# Altium footprint library MacroQMK.PcbLib: 13 footprints
Each footprint in its own frame and in the unit in brackets; x right, y up, seen from the top. Pads: shape width x height; smd on the part's side, far side on the other; paste and mask are expansions set on the pad; w line width, h text height; cw(c..) or ccw(c..) is an arc to the next point about the centre after c.
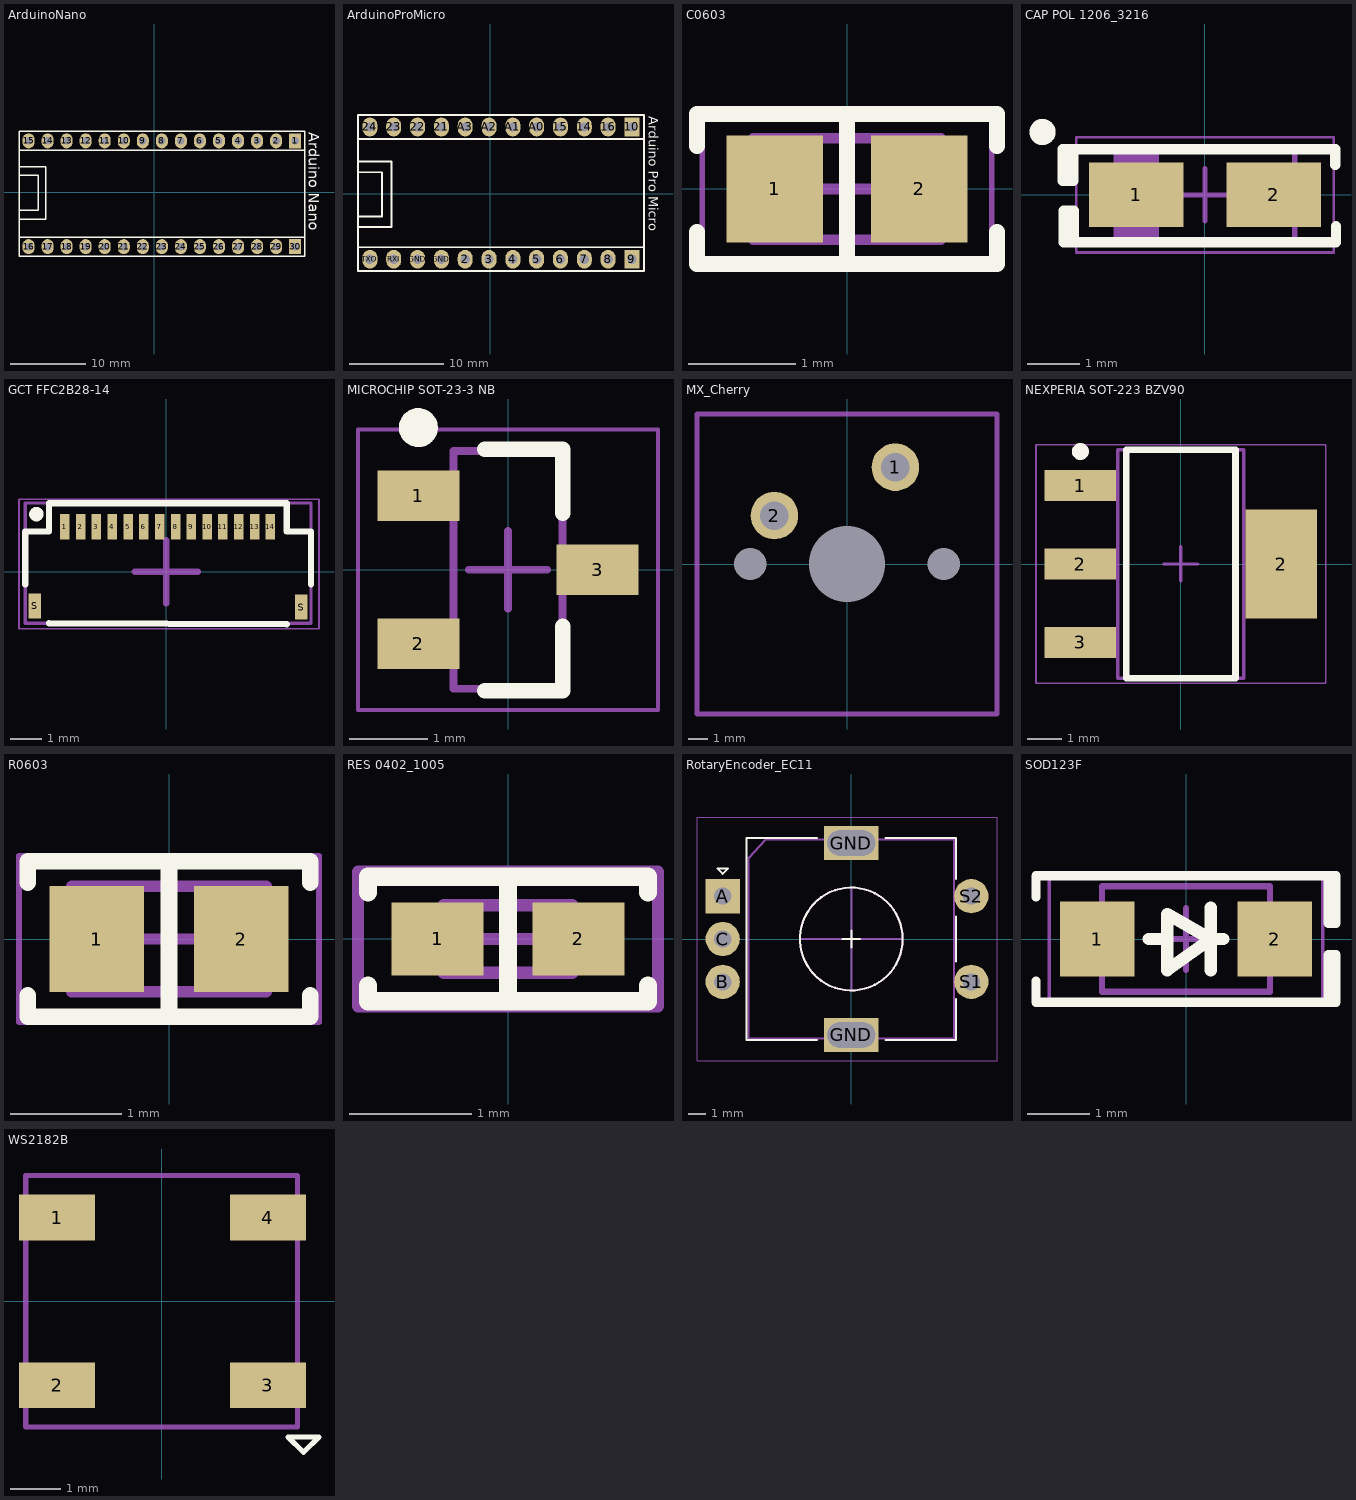
[diagram p0: the footprints below, top view; thin cyan lines are the x and y axes]

## ArduinoNano [mm]
pads (30):
  rect 1.6x2 hole 1: 1(18.796,6.858) 30(18.796,-7.239)
  oval 1.6x2 hole 1: 2(16.256,6.858) 3(13.716,6.858) 4(11.176,6.858) 5(8.636,6.858) 6(6.096,6.858) 7(3.556,6.858) 8(1.016,6.858) 9(-1.524,6.858) 10(-4.064,6.858) 11(-6.604,6.858) 12(-9.144,6.858) 13(-11.684,6.858) 14(-14.224,6.858) 15(-16.764,6.858) 16(-16.764,-7.239) 17(-14.224,-7.239) 18(-11.684,-7.239) 19(-9.144,-7.239) 20(-6.604,-7.239) 21(-4.064,-7.239) 22(-1.524,-7.239) 23(1.016,-7.239) 24(3.556,-7.239) 25(6.096,-7.239) 26(8.636,-7.239) 27(11.176,-7.239) 28(13.716,-7.239) 29(16.256,-7.239)
Top Overlay:
  lines w0.2: -18.034,-7.493 -18.034,6.858 ; -18.034,-3.429 -18.034,-3.556 -14.478,-3.556 -14.478,3.429 -18.034,3.429 ; -18.034,-2.413 -15.494,-2.413 -15.494,2.286 -18.034,2.286 ; 20.066,-8.128 20.066,8.001 ; -18.034,-8.509 -18.034,-5.969 20.066,-5.969 20.066,-8.509 18.161,-8.509 -18.034,-8.509 ; -18.034,5.588 -18.034,8.128 20.066,8.128 20.066,5.588 18.161,5.588 -18.034,5.588
  text "Arduino Nano" at 20.574,8.001 h1.4

## ArduinoProMicro [mm]
pads (24):
  oval 1.6x2 hole 1: 2(-2.667,-6.985) 3(-0.127,-6.985) 4(2.413,-6.985) 5(4.953,-6.985) 6(7.493,-6.985) 7(10.033,-6.985) 8(12.573,-6.985) 14(10.033,7.112) 15(7.493,7.112) 16(12.573,7.112) 21(-5.207,7.112) 22(-7.747,7.112) 23(-10.287,7.112) 24(-12.827,7.112) A0(4.953,7.112) A1(2.413,7.112) A2(-0.127,7.112) A3(-2.667,7.112) GND(-7.747,-6.985) GND(-5.207,-6.985) RXI(-10.287,-6.985) TXO(-12.827,-6.985)
  rect 1.6x2 hole 1: 9(15.113,-6.985) 10(15.113,7.112)
Top Overlay:
  lines w0.2: -14.097,-7.239 -14.097,7.112 ; -14.097,-3.429 -14.097,-3.556 -10.541,-3.556 -10.541,3.429 -14.097,3.429 ; -14.097,-2.413 -11.557,-2.413 -11.557,2.286 -14.097,2.286 ; 16.383,-7.874 16.383,8.255 ; -14.097,-8.255 -14.097,-5.715 16.383,-5.715 16.383,-8.255 14.478,-8.255 -14.097,-8.255 ; -14.097,5.842 -14.097,8.382 16.383,8.382 16.383,5.842 14.478,5.842 -14.097,5.842
  text "Arduino Pro Micro" at 16.891,8.255 h1

## C0603 [mm] "Chip Capacitor, 2-Leads, Body 1.60x0.80mm, IPC Medium Density"
height 0.89
pads (2):
  rect 0.9x1 smd: 1(-0.675,0) 2(0.675,0)
Top Overlay:
  lines w0.15: -1.4,-0.4 -1.4,-0.7 1.4,-0.7 1.4,-0.4 ; -1.4,0.4 -1.4,0.7 1.4,0.7 1.4,0.4 ; 0,-0.7 0,0.7
Mechanical 13:
  lines w0.1: -0.875,-0.475 -0.875,0.475 0.875,0.475 0.875,-0.475 -0.875,-0.475
Mechanical 15:
  lines w0.05: -1.35,-0.75 -1.35,0.75 1.35,0.75 1.35,-0.75 -1.35,-0.75
  lines w0.1: -0.475,0 0.475,0 ; 0,-0.475 0,0.475
3D body "0603 cap.STEP": height 0.82, standoff 0, extent -0.8,-0.412 0.8,0.412

## CAP POL 1206_3216 [mm] "Molded Capacitor, 2-Leads, Body 3.20x1.6mm, IPC Medium Density"
height 1.7
pads (2):
  rect 1.8x1.23 smd: 1(-1.31,0) 2(1.31,0)
Top Overlay:
  circle w0.25: c-3.1,1.2 r0.125
  rectangle: -2.717,0.273 -2.567,0.873
  rectangle: -2.7,-0.9 -2.55,-0.3
  lines w0.2: -2.517,0.873 -2.517,0.273 -2.717,0.273 -2.717,0.873 2.483,0.873 2.483,0.573 ; -2.5,-0.9 -2.5,-0.3 -2.7,-0.3 -2.7,-0.9 2.5,-0.9 2.5,-0.6
Mechanical 13:
  rectangle: -1.715,-0.85 -0.875,0.85
  lines w0.1: -1.7,-0.85 -1.7,0.85 1.715,0.85 1.715,-0.85 -1.7,-0.85
Mechanical 15:
  lines w0.05: -2.46,-1.1 2.46,-1.1 2.46,1.1 -2.46,1.1 -2.46,-1.1
  lines w0.1: -0.5,0 0.5,0 ; 0,-0.5 0,0.5
3D body "CAP TANT - 1206 - 1.7MM.step": height 1.7, standoff 0, extent -1.715,-0.85 1.715,0.85

## GCT FFC2B28-14 [mm] "14 Position FFC, FPC Connector Contacts, Top and Bottom 0.020\" (0.50mm) Surface Mount, Right Angle"
height 1
pads (16):
  rect 0.3x0.8 smd: 1(-3.21,1.425) 2(-2.71,1.425) 3(-2.21,1.425) 4(-1.71,1.425) 5(-1.21,1.425) 6(-0.71,1.425) 7(-0.21,1.425) 8(0.29,1.425) 9(0.79,1.425) 10(1.29,1.425) 11(1.79,1.425) 12(2.29,1.425) 13(2.79,1.425) 14(3.29,1.425)
  rect 0.4x0.8 smd: S(-4.16,-1.075) S(4.267,-1.11)
Top Overlay:
  circle w0.254: c-4.11,1.825 r0.1
  lines w0.2: -4.46,-0.4 -4.46,1.275 -3.71,1.275 -3.71,2.175 3.81,2.175 3.81,1.275 4.572,1.275 4.572,-0.4 ; -3.71,-1.625 3.81,-1.651
Mechanical 13:
  lines w0.1: -4.46,-1.625 4.572,-1.625 4.572,2.175 -4.46,2.175 -4.46,-1.625
Mechanical 15:
  lines w0.05: -4.66,-1.8 4.826,-1.8 4.826,2.3 -4.66,2.3 -4.66,-1.8
  lines w0.2: -1,0 1,0 ; 0,-1 0,1
3D body: height 0.25, standoff 0, extent -4.46,-1.625 4.572,1.625

## MICROCHIP SOT-23-3 NB [mm] "SOT23, 3-Leads, Body 2.86x2.37mm, Pitch 0.95mm, IPC Medium Density"
height 1.12
pads (3):
  rect 1.05x0.65 smd: 1(-1.15,0.95) 2(-1.15,-0.95) 3(1.15,0)
Top Overlay:
  circle w0.25: c-1.15,1.825 r0.125
  lines w0.2: -0.3,-1.55 0.7,-1.55 0.7,-0.725 ; -0.3,1.55 0.7,1.55 0.7,0.725
Mechanical 13:
  lines w0.1: -0.7,-1.525 -0.7,1.525 0.7,1.525 0.7,-1.525 -0.7,-1.525
Mechanical 15:
  lines w0.05: -1.925,-1.8 -1.925,1.8 1.925,1.8 1.925,-1.8 -1.925,-1.8
  lines w0.1: -0.5,0 0.5,0 ; 0,-0.5 0,0.5
3D body "sot-23-3-microchip.STEP": height 1.22, standoff 0, extent -1.22,-1.45 1.221,1.45

## MX_Cherry [mm] "Cherry Key Pad with LED"
pads (5):
  round 2.5 hole 1.5: 1(2.54,5.08) 2(-3.81,2.54)
  round 0 hole 1.702: 6(-5.08,0) 6(5.08,0)
  round 0 hole 3.988: Hole(0,0)
Mechanical 1:
  lines w0.254: -7.874,-7.874 7.874,-7.874 7.874,7.874 -7.874,7.874 -7.874,-7.874
3D body "MX .STEP": height 14.9, standoff -4, extent -7.747,-7.8 7.853,7.8

## NEXPERIA SOT-223 BZV90 [mm] "SOT223, 4-Leads, Body 6.50x7.00mm (avg), Pitch 2.30mm, IPC Medium Density"
height 1.8
pads (4):
  rect 2.1x0.9 smd: 1(-2.95,2.3) 2(-2.95,0) 3(-2.95,-2.3)
  rect 2.1x3.2 smd: 2(2.95,0)
Top Overlay:
  circle w0.25: c-2.95,3.3 r0.125
  lines w0.2: -1.6,-3.35 -1.6,3.35 1.6,3.35 1.6,-3.35 -1.6,-3.35
Mechanical 13:
  lines w0.1: -1.85,-3.35 -1.85,3.35 1.85,3.35 1.85,-3.35 -1.85,-3.35
Mechanical 15:
  lines w0.05: -4.25,-3.5 -4.25,3.5 4.25,3.5 4.25,-3.5 -4.25,-3.5
  lines w0.1: -0.5,0 0.5,0 ; 0,-0.5 0,0.5
3D body "NEXPERIA SOT-223 BZV90.step": height 1.8, standoff 0, extent -3.5,-3.35 3.5,3.35

## R0603 [mm] "Chip Resistor, 2-Leads, Body 1.60x0.80mm, IPC Medium Density"
height 0.45
pads (2):
  rect 0.85x0.95 smd: 1(-0.65,0) 2(0.65,0)
Top Overlay:
  lines w0.15: -1.27,-0.508 -1.27,-0.7 1.27,-0.7 1.27,-0.508 ; -1.27,0.508 -1.27,0.7 1.27,0.7 1.27,0.508 ; 0,-0.7 0,0.7
Mechanical 13:
  lines w0.1: -0.875,-0.475 -0.875,0.475 0.875,0.475 0.875,-0.475 -0.875,-0.475
Mechanical 15:
  lines w0.05: -1.35,-0.75 -1.35,0.75 1.35,0.75 1.35,-0.75 -1.35,-0.75
  lines w0.1: -0.475,0 0.475,0 ; 0,-0.475 0,0.475
3D body "0603 resistor.STEP": height 0.45, standoff 0, extent -0.8,-0.4 0.8,0.4

## RES 0402_1005 [mm] "Chip Resistor, 2-Leads, Body 1.0x0.5mm, IPC Medium Density"
height 0.4
pads (2):
  rect 0.75x0.6 smd: 1(-0.575,0) 2(0.575,0)
Top Overlay:
  lines w0.15: -1.143,-0.381 -1.143,-0.508 1.143,-0.508 1.143,-0.381 ; -1.143,0.381 -1.143,0.508 1.143,0.508 1.143,0.381 ; 0,-0.508 0,0.508
Mechanical 13:
  lines w0.1: -0.525,-0.275 0.525,-0.275 0.525,0.275 -0.525,0.275 -0.525,-0.275
Mechanical 15:
  lines w0.1: -0.275,0 0.275,0 ; 0,-0.275 0,0.275 ; -1.225,-0.55 1.225,-0.55 1.225,0.55 -1.225,0.55 -1.225,-0.55
3D body "0402 resistor.STEP": height 0.35, standoff 0, extent -0.5,-0.25 0.5,0.25

## RotaryEncoder_EC11 [mm]
pads (7):
  rect 2x2 hole 1: A(-7.5,2.5)
  round 2 hole 1: B(-7.5,-2.5) C(-7.5,0) S1(7,-2.5) S2(7,2.5)
  rect 3.2x2 hole 1.5 slot 2.8 at 0 deg: GND(0,-5.6) GND(0,5.6)
Top Overlay:
  circle w0.12: c0,0 r3
  lines w0.12: -2,-5.9 -6.1,-5.9 -6.1,5.9 -2,5.9 ; -0.5,0 0.5,0 ; 0,-0.5 0,0.5 ; 2,-5.9 6.1,-5.9 6.1,-3.5 ; 2,5.9 6.1,5.9 6.1,3.5 ; 6.1,-1.3 6.1,1.3 ; -7.8,4.1 -7.2,4.1 -7.5,3.8 -7.8,4.1
Mechanical 4:
  lines w0.05: -9,-7.1 -9,7.1 8.5,7.1 8.5,-7.1 -9,-7.1
Mechanical 6:
  circle w0.12: c0,0 r3
  lines w0.12: -3,0 3,0 ; 0,-3 0,3 ; -6,-5.8 -6,4.7 -5,5.8 6,5.8 6,-5.8 -6,-5.8

## SOD123F [mm] "SODFL, 2-Leads, Body 1.60x3.50mm, IPC Medium Density"
height 1
pads (2):
  rect 1.2x1.2 smd: 1(-1.43,0) 2(1.43,0)
Top Overlay:
  lines w0.15: -2.413,-0.675 -2.413,-1.016 2.286,-1.016 ; -2.413,0.675 -2.413,1.016 2.286,1.016 ; 2.286,-1.016 2.286,-0.254 2.413,-0.254 2.413,-1.016 2.286,-1.016 ; 2.286,1.016 2.413,1.016 2.413,0.254 2.286,0.254 2.286,1.016
  lines w0.2: -0.6,0 -0.3,0 ; 0.4,-0.5 0.4,0.5 ; 0.6,0 0.4,0 ; 0.4,0 -0.3,-0.5 -0.3,0.4 0.4,0
Mechanical 13:
  lines w0.1: -1.35,-0.85 1.35,-0.85 1.35,0.85 -1.35,0.85 -1.35,-0.85
Mechanical 15:
  lines w0.05: -2.2,-1 2.2,-1 2.2,1 -2.2,1 -2.2,-1
  lines w0.1: -0.5,0 0.5,0 ; 0,-0.5 0,0.5
3D body "SOD123F.STEP": height 1.1, standoff 0, extent -1.75,-0.8 1.75,0.8

## WS2182B [mm]
height 2
pads (4):
  rect 1.5x0.9 smd: 1(-2.058,1.651) 2(-2.058,-1.649) 3(2.092,-1.649) 4(2.092,1.651)
Top Overlay:
  lines w0.1: 2.49,-2.667 2.794,-2.971 3.098,-2.667 2.49,-2.667
Mechanical 1:
  lines w0.1: -2.675,-2.475 2.675,-2.475 2.675,2.475 -2.675,2.475 -2.675,-2.475
3D body "WS2812_RGB_LED_updated.stp": height 1.7, standoff 0, extent -2.675,-2.475 2.675,2.475